# EAGLE library part TXB0104 (library 0SBLib)
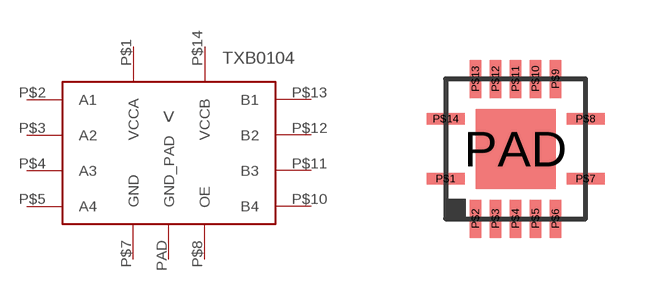
[diagram p10: symbol with the pads of QFN14; footprint QFN14]

Designator prefix -

## TXB0104  [QFN14]
P$1  VCCA
P$2  A1
P$3  A2
P$4  A3
P$5  A4
P$7  GND
P$8  OE
P$10  B4
P$11  B3
P$12  B2
P$13  B1
P$14  VCCB
PAD  GND_PAD

## Footprint QFN14 (pad centres in mm)
smd 0.95 x 0.28: P$1 -1.75,-0.75; P$7 1.75,-0.75; P$8 1.75,0.75; P$14 -1.75,0.75
smd 0.28 x 0.95: P$2 -1,-1.75; P$3 -0.5,-1.75; P$4 0,-1.75; P$5 0.5,-1.75; P$6 1,-1.75; P$9 1,1.75; P$10 0.5,1.75; P$11 0,1.75; P$12 -0.5,1.75; P$13 -1,1.75
smd 2 x 2: PAD 0,0